# Altium footprint library VJ0603A120JXACW1BC.PcbLib: 3 footprints
Each footprint in its own frame and in the unit in brackets; x right, y up, seen from the top. Pads: shape width x height; smd on the part's side, far side on the other; paste and mask are expansions set on the pad; w line width, h text height; cw(c..) or ccw(c..) is an arc to the next point about the centre after c.
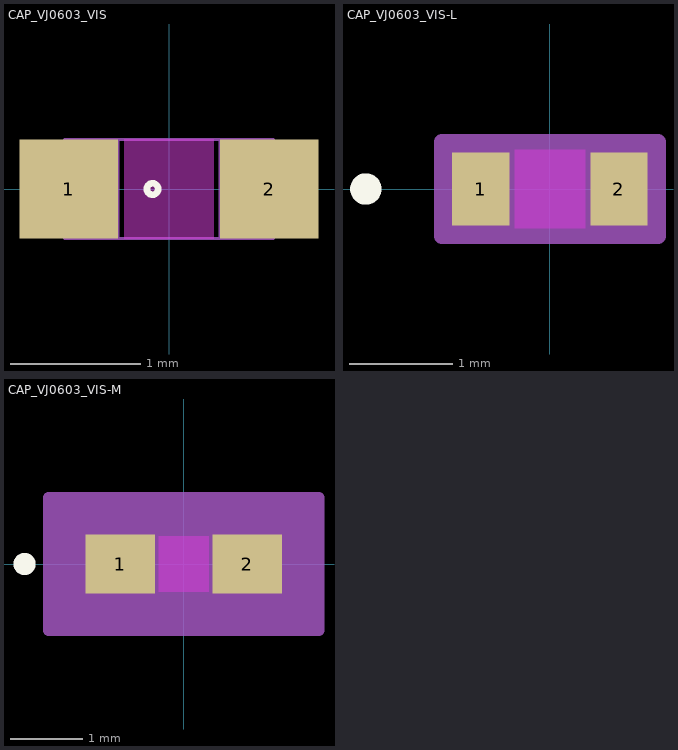
[diagram p0: the footprints below, top view; thin cyan lines are the x and y axes]

## CAP_VJ0603_VIS [mil]
pads (2):
  rect 29.78x30 smd paste+0 mask+0: 1(-30.39,0) 2(30.39,0)
Top Layer keep-out:
  region: -13.5,-13 -13.5,13 13.5,13 13.5,-13
Top Overlay:
  circle w2: c-5,0 r1.72
Keep-Out Layer:
  region: -13.5,-15 -13.5,15 13.5,15 13.5,-15
Mechanical 13:
  circle w1: c-25.39,0 r3
  lines w1: -31.5,-15 -31.5,15 ; -31.5,-15 31.5,-15 ; -31.5,-15 -15.5,-15 -15.5,15 -31.5,15 ; -31.5,-15 -31.5,15 ; -31.5,15 31.5,15 ; 31.5,-15 31.5,15 ; 31.5,-15 31.5,15 ; 31.5,-15 15.5,-15 15.5,15 31.5,15
3D body "CAP_VJ0603_VIS.step": height 30, standoff 0, extent -31.5,-15 31.5,15

## CAP_VJ0603_VIS-L [mil]
pads (2):
  rect 21.91x28.03 smd paste+0 mask+0: 1(-26.45,0) 2(26.45,0)
Top Layer keep-out:
  region: -13.5,-13 -13.5,13 13.5,13 13.5,-13
Top Overlay:
  circle w6: c-70.41,0 r3
  text ".Designator" at -137.5,-25 h50
Keep-Out Layer:
  region: -13.5,-15 -13.5,15 13.5,15 13.5,-15
Mechanical 13:
  circle w1: c-21.45,0 r3
  lines w1: -31.5,-15 -31.5,15 ; -31.5,-15 -15.5,-15 -15.5,15 -31.5,15 ; -31.5,-15 31.5,-15 ; -31.5,-15 -31.5,15 ; -31.5,15 31.5,15 ; 31.5,-15 15.5,-15 15.5,15 31.5,15 ; 31.5,-15 31.5,15 ; 31.5,-15 31.5,15
  text ".Designator" at -137.5,-25 h50
Mechanical 15:
  region: 41.41,-18.02 -41.41,-18.02 -41.41,18.02 41.41,18.02
  lines w6: -41.41,-18.02 -41.41,18.02 41.41,18.02 41.41,-18.02 -41.41,-18.02
3D body "CAP_VJ0603_VIS.step": height 30, standoff 0, extent -31.5,-15 31.5,15

## CAP_VJ0603_VIS-M [mil]
pads (2):
  rect 37.65x31.97 smd paste+0 mask+0: 1(-34.33,0) 2(34.33,0)
Top Layer keep-out:
  region: -13.5,-13 -13.5,13 13.5,13 13.5,-13
Top Overlay:
  circle w6: c-86.15,0 r3
  text ".Designator" at -137.5,-25 h50
Keep-Out Layer:
  region: -13.5,-15 -13.5,15 13.5,15 13.5,-15
Mechanical 13:
  circle w1: c-29.33,0 r3
  lines w1: -31.5,-15 -31.5,15 ; -31.5,-15 31.5,-15 ; -31.5,-15 -15.5,-15 -15.5,15 -31.5,15 ; -31.5,-15 -31.5,15 ; -31.5,15 31.5,15 ; 31.5,-15 31.5,15 ; 31.5,-15 31.5,15 ; 31.5,-15 15.5,-15 15.5,15 31.5,15
  text ".Designator" at -137.5,-25 h50
Mechanical 15:
  region: 73.15,-35.98 -73.15,-35.98 -73.15,35.98 73.15,35.98
  lines w6: -73.15,-35.98 73.15,-35.98 73.15,35.98 -73.15,35.98 -73.15,-35.98
3D body "CAP_VJ0603_VIS.step": height 30, standoff 0, extent -31.5,-15 31.5,15